# EAGLE library part ATF22V10B (library Custom)
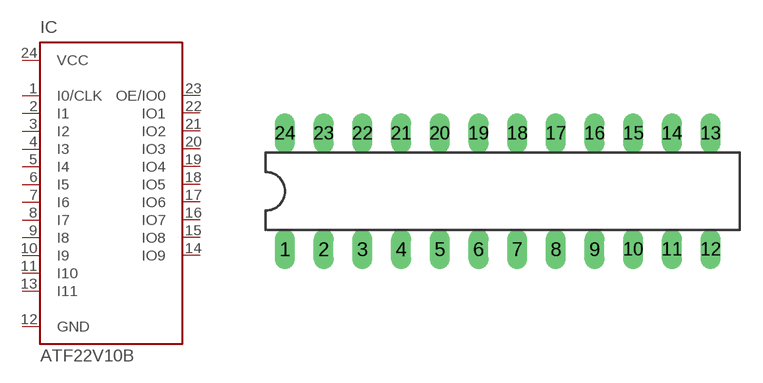
[diagram p26: symbol with the pads of DIL24; footprint DIL24]

Designator prefix IC

## ATF22V10B  [DIL24]
1  I0/CLK  in
2  I1  in
3  I2  in
4  I3  in
5  I4  in
6  I5  in
7  I6  in
8  I7  in
9  I8  in
10  I9  in
11  I10  in
12  GND  pwr
13  I11  in
14  IO9
15  IO8
16  IO7
17  IO6
18  IO5
19  IO4
20  IO3
21  IO2
22  IO1
23  OE/IO0  in
24  VCC  pwr

## Footprint DIL24 (pad centres in mm)
Dual In Line package type P
drill 0.813 long: 1 -13.97,-3.81; 2 -11.43,-3.81; 3 -8.89,-3.81; 4 -6.35,-3.81; 5 -3.81,-3.81; 6 -1.27,-3.81; 7 1.27,-3.81; 8 3.81,-3.81; 9 6.35,-3.81; 10 8.89,-3.81; 11 11.43,-3.81; 12 13.97,-3.81; 13 13.97,3.81; 14 11.43,3.81; 15 8.89,3.81; 16 6.35,3.81; 17 3.81,3.81; 18 1.27,3.81; 19 -1.27,3.81; 20 -3.81,3.81; 21 -6.35,3.81; 22 -8.89,3.81; 23 -11.43,3.81; 24 -13.97,3.81